# EAGLE library part 691242510010 (library Wurth_Connectors_WR-TBL Rising Cage Clamp)
WR-TBL Serie 2425 - 5.08 mm Horizontal Entry Modular w. Rising Cage Clamp KIND PROPERTIES Pitch 5.08 mm MATERIAL PROPERTIES Insulator Material PA66 Insulator Flammability Rating UL94 V-0 Contact Material Steel Contact Plating Zinc Contact Type Stamped Terminal Screw Material Steel Terminal Screw Plating Zinc Wire Guard Material Copper Alloy GENERAL INFORMATION Operating Temperature -30 up to +120 °C Compliance ROHS & Reach ELECTRICAL PROPERTIES IR UL 14 A IR VDE 24 A Working Voltage [UL] 300 V (AC) Working Voltage [VDE] 250 V (AC) Withstanding Voltage [UL] 1600 V (AC) Withstanding Voltage [VDE] 2000 V (AC) Contact Resistance 20 mΩ MECHANICAL PROPERTIES Wire Strip Length 6 Screw M3 CERTIFICATION VDE Approval 40021356 PACKAGING PROPERTIES Packaging Box <https://www.we-online.com/catalog/media/o79416v209%20Family_WR-TBL_6912427000xx_6912425000xx.jpg> Details see: https://www.we-online.com/catalog/en/TBL_5_08_2425_HORIZONTAL_ENTRY_W_RISING_CAGE_6912425100xx/ Updated by Ella Wu 2019-11-26 2019(C) Wurth Elektronik
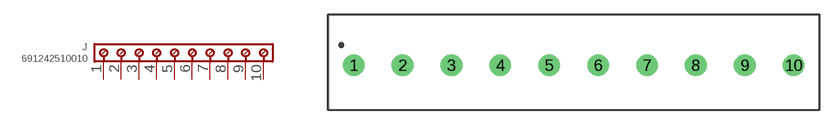
[diagram p32: symbol with the pads of 691242510010; footprint 691242510010]

Designator prefix J

## 691242510010 (IR-UL: 14A; IR-VDE: 24A; PART-NUMBER: 691242510010; PINS: 10; PITCH: 5.08mm; TYPE: Horizontal; WIRE: 12 to 30 (AWG) 3.31 to 0.0509 (mm²); WORKING-VOLTAGE-UL: 300V (AC); WORKING-VOLTAGE-VDE: 250V (AC))  [691242510010]
1  1  pas
2  2  pas
3  3  pas
4  4  pas
5  5  pas
6  6  pas
7  7  pas
8  8  pas
9  9  pas
10  10  pas

## Footprint 691242510010 (pad centres in mm)
WR-TBL Serie 2425 - 5.08 mm Horizontal Entry Modular w. Rising Cage Clamp Max Height =13.8mm , Pitch 5.08mm , 10 Pins
drill 1.5: 1 -22.86,0; 2 -17.78,0; 3 -12.7,0; 4 -7.62,0; 5 -2.54,0; 6 2.54,0; 7 7.62,0; 8 12.7,0; 9 17.78,0; 10 22.86,0